# Altium schematic symbol library Schlib.SchLib: 73 symbols
Pins are listed as number, name and electrical type; pins without a type are passive.

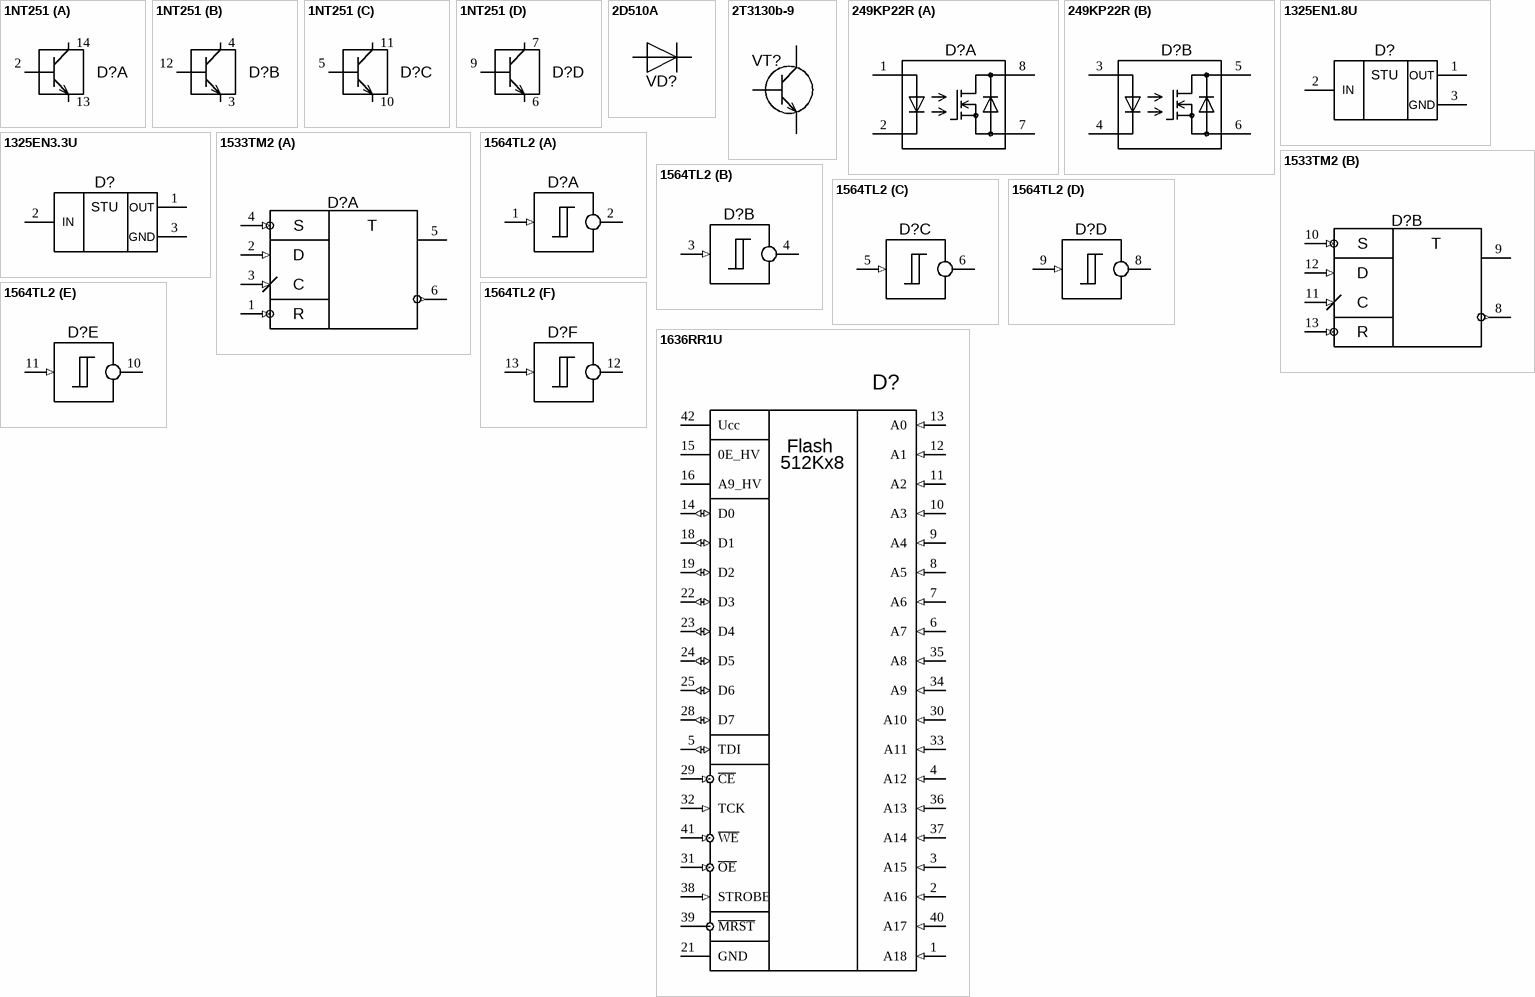
[diagram p0: symbols 1NT251 to 1636RR1U]

## 1NT251
designator D?  (value not drawn)
4x N-P-N; TypeElement: Матрица транзисторная; Name: 1НТ251А; Screening: ОС; Script: [TypeElement] [Name] [Screening]; Specific: И93.456.000ТУ/Д6; ScrSpecific: аА0.339.190ТУ; Value: *
footprint 2T3129 (М=0,01г, пластмассовый корпус, без прокладки,ручная пайка)
pins on every part: 1 hidden, 8 hidden
part A pins: 2, 13, 14
part B pins: 3, 4, 12
part C pins: 5, 10, 11
part D pins: 6, 7, 9

## 2D510A
designator VD?  (value not drawn)
Pulse Diode; Specific: АЕЯР.432120.602 ТУ; TypeElement: Диод; Name: 2Д510А/ББ; Script: [TypeElement] [Name]; Screening: ОС
footprint 2D510A_P
pins: Minus, Plus

## 2T3130b-9
designator VT?  (value not drawn)
n-p-n; TypeElement: Транзистор; Name: 2Т3130; Modification: Б9; Screening: ОСМ; Script: [TypeElement] [Name][Modification] [Screening]; Specific: аА0.339.569ТУ; Value: *
footprint 2T3129 (М=0,01г, пластмассовый корпус, без прокладки,ручная пайка)
pins: 1, 2, 3

## 249KP22R
designator D?  (value not drawn)
2x SS-relay; Specific: АЕНВ.431160.047ТУ; Script: [TypeElement] [Name]; TypeElement: Микросхема; Name: 249КП22Р
pins on every part: 1 hidden, 4 hidden
part A pins: 1 IN1+, 2 IN1-, 7 OUT1-, 8 OUT1+
part B pins: 3 IN2+, 4 IN2-, 5 OUT2+, 6 OUT2-

## 1325EN1.8U
designator D?
1.8V Linear Regulator; TypeElement: Микросхема; Specific: АЕЯР.431200.762ТУ; Name: 1325ЕН1.8У; Script: [TypeElement] [Name]
footprint KT_93_1NN
pins: 1 OUT, 2 IN, 3 GND
text: STU

## 1325EN3.3U
designator D?
3.3V Linear Regulator; TypeElement: Микросхема; Specific: АЕЯР.431200.762ТУ; Name: 1325ЕН3.3У; Script: [TypeElement] [Name]
footprint KT_93_1NN
pins: 1 OUT, 2 IN, 3 GND
text: STU

## 1533TM2
designator D?
2x D-FlipFlop with preset; TypeElement: Микросхема; Name: 1533ТМ2; Script: [TypeElement] [Name]; Specific: бК0.347.364-02ТУ; Value: *
part A pins: 1 ~{R1} (in), 2 D1 (in), 3 C1 (in), 4 ~{S1} (in), 5 OUT1, 6 ~{OUT1} (out), 7 GND (out) hidden to GND, 14 +5V (out) hidden to +5V
part B pins: 8 ~{OUT2} (out), 9 OUT2, 10 ~{S2} (in), 11 C2 (in), 12 D2 (in), 13 ~{R2} (in)
part A text: S; T; D; C; R
part B text: S; T; D; C; R

## 1564TL2
designator D?
Инв.+гист. х6; TypeElement: Микросхема; Specific: бК0.347.479-07ТУ; Name: 1564ТЛ2; Script: [TypeElement] [Name]
footprint KT_93_1NN
pins on every part: 7 GND (power) hidden to GND, 14 +U (power) hidden to +3V3
part A pins: 1 IN (in), 2 OUT (out)
part B pins: 3 IN (in), 4 OUT (out)
part C pins: 5 IN (in), 6 OUT (out)
part D pins: 8 OUT (out), 9 IN (in)
part E pins: 10 OUT (out), 11 IN (in)
part F pins: 12 OUT (out), 13 IN (in)

## 1636RR1U
designator D?  (value not drawn)
TypeElement: Микросхема; Name: 1636РР1АУ; Script: [TypeElement] [Name]; Specific: АЕЯР.431210.647ТУ; Value: *
pins: 1 A18 (in), 2 A16 (in), 3 A15 (in), 4 A12 (in), 5 TDI (io), 6 A7 (in), 7 A6 (in), 8 A5 (in), 9 A4 (in), 10 A3 (in), 11 A2 (in), 12 A1 (in), 13 A0 (in), 14 D0 (io), 15 0E_HV, 16 A9_HV, 17 hidden, 18 D1 (io), 19 D2 (io), 20 hidden, 21 GND, 22 D3 (io), 23 D4 (io), 24 D5 (io), 25 D6 (io), 26 hidden, 27 hidden, 28 D7 (io), 29 ~{CE} (in), 30 A10 (in), 31 ~{OE} (in), 32 TCK (in), 33 A11 (in), 34 A9 (in), 35 A8 (in), 36 A13 (in), 37 A14 (in), 38 STROBE (in), 39 ~{MRST}, 40 A17 (in), 41 ~{WE} (in), 42 Ucc
text: Flash; 512Kx8

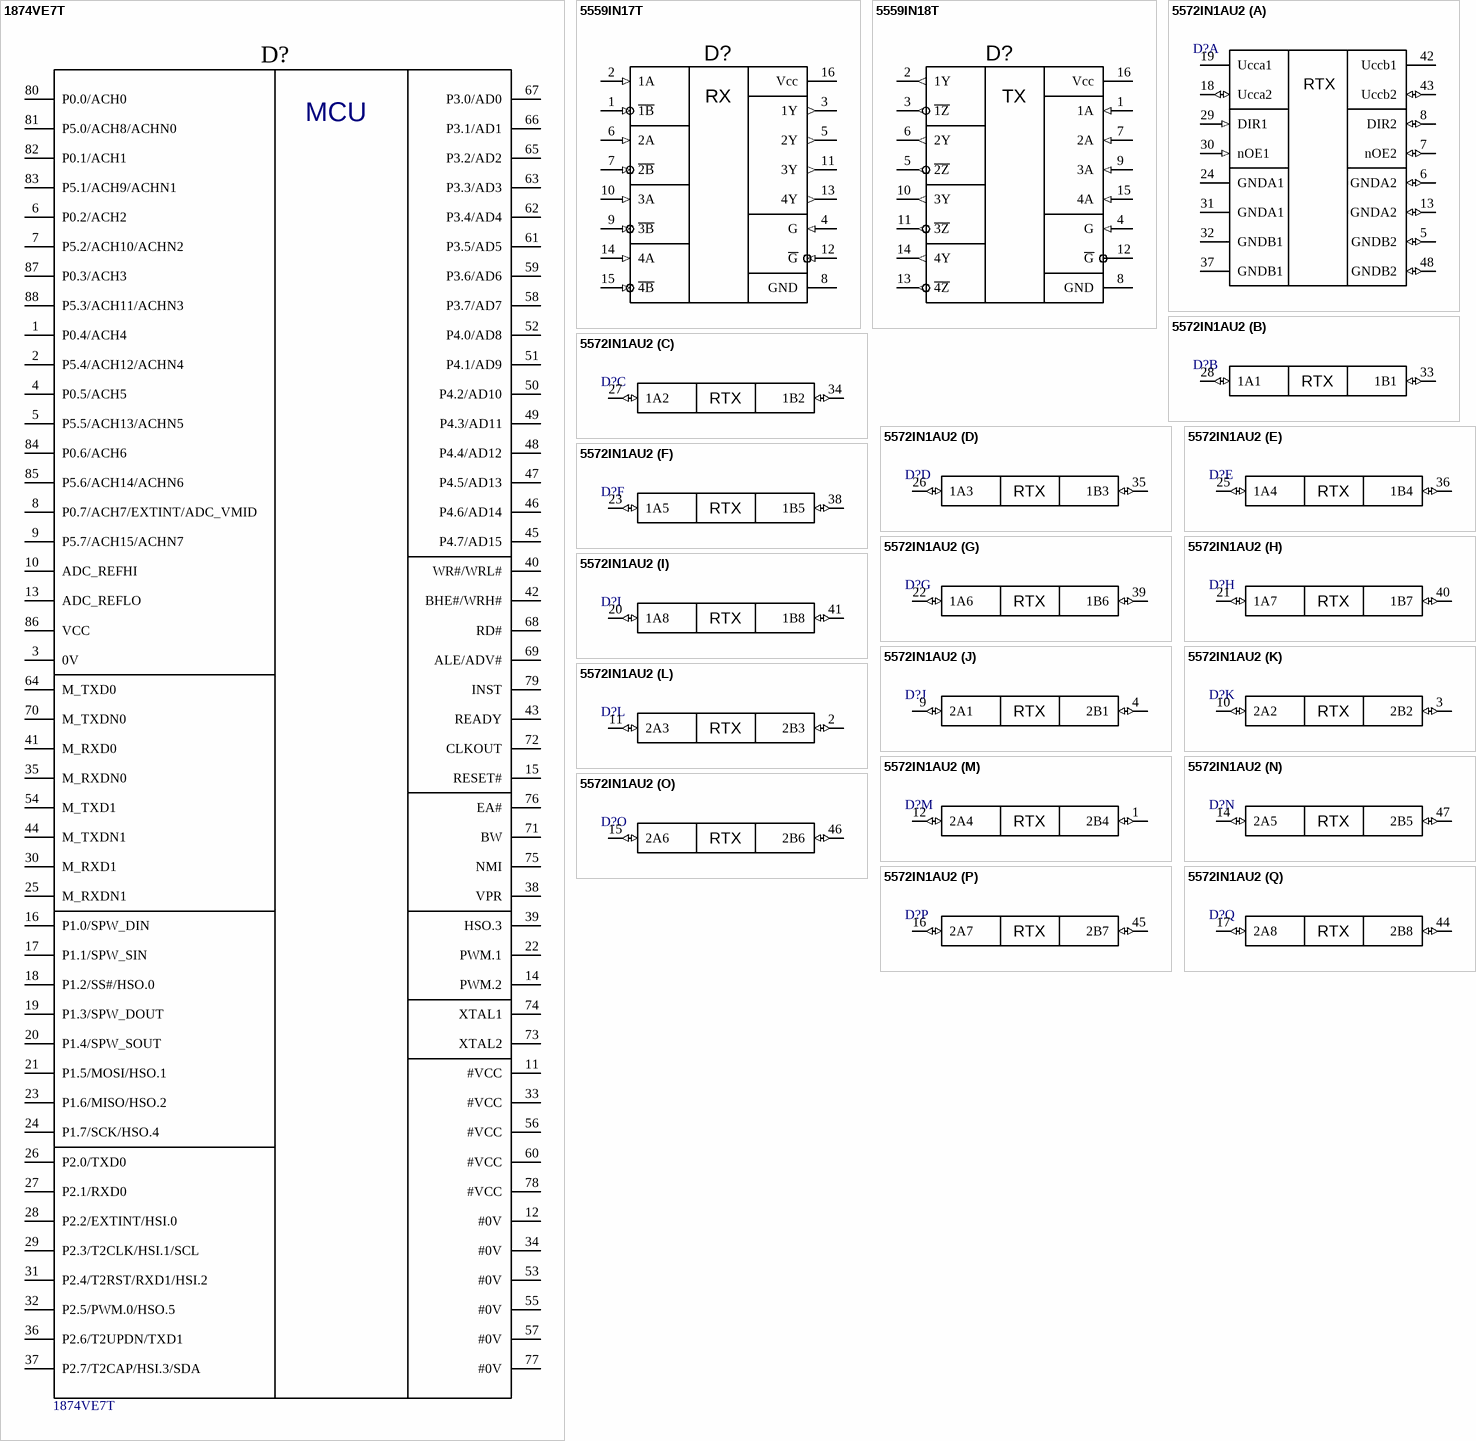
[diagram p1: symbols 1874VE7T to 5572IN1AU2]

## 1874VE7T
designator D?
Script: [TypeElement] [Name]; TypeElement: Микросхема; Name: 1874ВЕ7БТ; Specific: АЕЯР.431280.903ТУ
pins: 1 P0.4/ACH4, 2 P5.4/ACH12/ACHN4, 3 0V, 4 P0.5/ACH5, 5 P5.5/ACH13/ACHN5, 6 P0.2/ACH2, 7 P5.2/ACH10/ACHN2, 8 P0.7/ACH7/EXTINT/ADC_VMID, 9 P5.7/ACH15/ACHN7, 10 ADC_REFHI, 11 #VCC, 12 #0V, 13 ADC_REFLO, 14 PWM.2, 15 RESET#, 16 P1.0/SPW_DIN, 17 P1.1/SPW_SIN, 18 P1.2/SS#/HSO.0, 19 P1.3/SPW_DOUT, 20 P1.4/SPW_SOUT, 21 P1.5/MOSI/HSO.1, 22 PWM.1, 23 P1.6/MISO/HSO.2, 24 P1.7/SCK/HSO.4, 25 M_RXDN1, 26 P2.0/TXD0, 27 P2.1/RXD0, 28 P2.2/EXTINT/HSI.0, 29 P2.3/T2CLK/HSI.1/SCL, 30 M_RXD1, 31 P2.4/T2RST/RXD1/HSI.2, 32 P2.5/PWM.0/HSO.5, 33 #VCC, 34 #0V, 35 M_RXDN0, 36 P2.6/T2UPDN/TXD1, 37 P2.7/T2CAP/HSI.3/SDA, 38 VPR, 39 HSO.3, 40 WR#/WRL#, 41 M_RXD0, 42 BHE#/WRH#, 43 READY, 44 M_TXDN1, 45 P4.7/AD15, 46 P4.6/AD14, 47 P4.5/AD13, 48 P4.4/AD12, 49 P4.3/AD11, 50 P4.2/AD10, 51 P4.1/AD9, 52 P4.0/AD8, 53 #0V, 54 M_TXD1, 55 #0V, 56 #VCC, 57 #0V, 58 P3.7/AD7, 59 P3.6/AD6, 60 #VCC, 61 P3.5/AD5, 62 P3.4/AD4, 63 P3.3/AD3, 64 M_TXD0, 65 P3.2/AD2, 66 P3.1/AD1, 67 P3.0/AD0, 68 RD#, 69 ALE/ADV#, 70 M_TXDN0, 71 BW, 72 CLKOUT, 73 XTAL2, 74 XTAL1, 75 NMI, 76 EA#, 77 #0V, 78 #VCC, 79 INST, 80 P0.0/ACH0, 81 P5.0/ACH8/ACHN0, 82 P0.1/ACH1, 83 P5.1/ACH9/ACHN1, 84 P0.6/ACH6, 85 P5.6/ACH14/ACHN6, 86 VCC, 87 P0.3/ACH3, 88 P5.3/ACH11/ACHN3
text: MCU

## 5559IN17T
designator D?  (value not drawn)
4xRS422 RX; TypeElement: Микросхема; Name: 5559ИН17Т; Script: [TypeElement] [Name]; Specific: АЕЯР.431230.699ТУ; Value: *
footprint 402_16_33
pins: 1 ~{1В} (in), 2 1A (in), 3 1Y (out), 4 G (in), 5 2Y (out), 6 2А (in), 7 ~{2В} (in), 8 GND, 9 ~{3В} (in), 10 3А (in), 11 3Y (out), 12 ~{G} (in), 13 4Y (out), 14 4А (in), 15 ~{4В} (in), 16 Vcc
text: RX

## 5559IN18T
designator D?
4xRS422 TX; TypeElement: Микросхема; Name: 5559ИН18Т; Script: [TypeElement] [Name]; Specific: АЕЯР.431230.700ТУ; Value: *
footprint 402_16_33
pins: 1 1A (in), 2 1Y (out), 3 ~{1Z} (out), 4 G (in), 5 ~{2Z} (out), 6 2Y (out), 7 2А (in), 8 GND, 9 3А (in), 10 3Y (out), 11 ~{3Z} (out), 12 ~{G}, 13 ~{4Z} (out), 14 4Y (out), 15 4А (in), 16 Vcc
text: TX

## 5572IN1AU2
designator D?  (value not drawn)
16bit BiDirrect BUS-driver; Name: 5572ИН1АУ; Script: [TypeElement][Name]; Specific: АЕЯР.431230.913ТУ; TypeElement: Микросхема; Value: *
footprint H16.48_1B (5572ИН1(А))
part A pins: 5 GNDB2 (io), 6 GNDA2 (io), 7 nOE2 (io), 8 DIR2 (io), 13 GNDA2 (io), 18 Ucca2 (io), 19 Ucca1, 24 GNDA1, 29 DIR1 (in), 30 nOE1 (in), 31 GNDA1, 32 GNDB1, 37 GNDB1, 42 Uccb1, 43 Uccb2 (io), 48 GNDB2 (io)
part B pins: 28 1A1 (io), 33 1B1 (io)
part C pins: 27 1A2 (io), 34 1B2 (io)
part D pins: 26 1A3 (io), 35 1B3 (io)
part E pins: 25 1A4 (io), 36 1B4 (io)
part F pins: 23 1A5 (io), 38 1B5 (io)
part G pins: 22 1A6 (io), 39 1B6 (io)
part H pins: 21 1A7 (io), 40 1B7 (io)
part I pins: 20 1A8 (io), 41 1B8 (io)
part J pins: 4 2B1 (io), 9 2A1 (io)
part K pins: 3 2B2 (io), 10 2A2 (io)
part L pins: 2 2B3 (io), 11 2A3 (io)
part M pins: 1 2B4 (io), 12 2A4 (io)
part N pins: 14 2A5 (io), 47 2B5 (io)
part O pins: 15 2A6 (io), 46 2B6 (io)
part P pins: 16 2A7 (io), 45 2B7 (io)
part Q pins: 17 2A8 (io), 44 2B8 (io)
part A text: RTX
part B text: RTX
part C text: RTX
part D text: RTX
part E text: RTX
part F text: RTX
part G text: RTX
part H text: RTX
part I text: RTX
part J text: RTX
part K text: RTX
part L text: RTX
part M text: RTX
part N text: RTX
part O text: RTX
part P text: RTX
part Q text: RTX

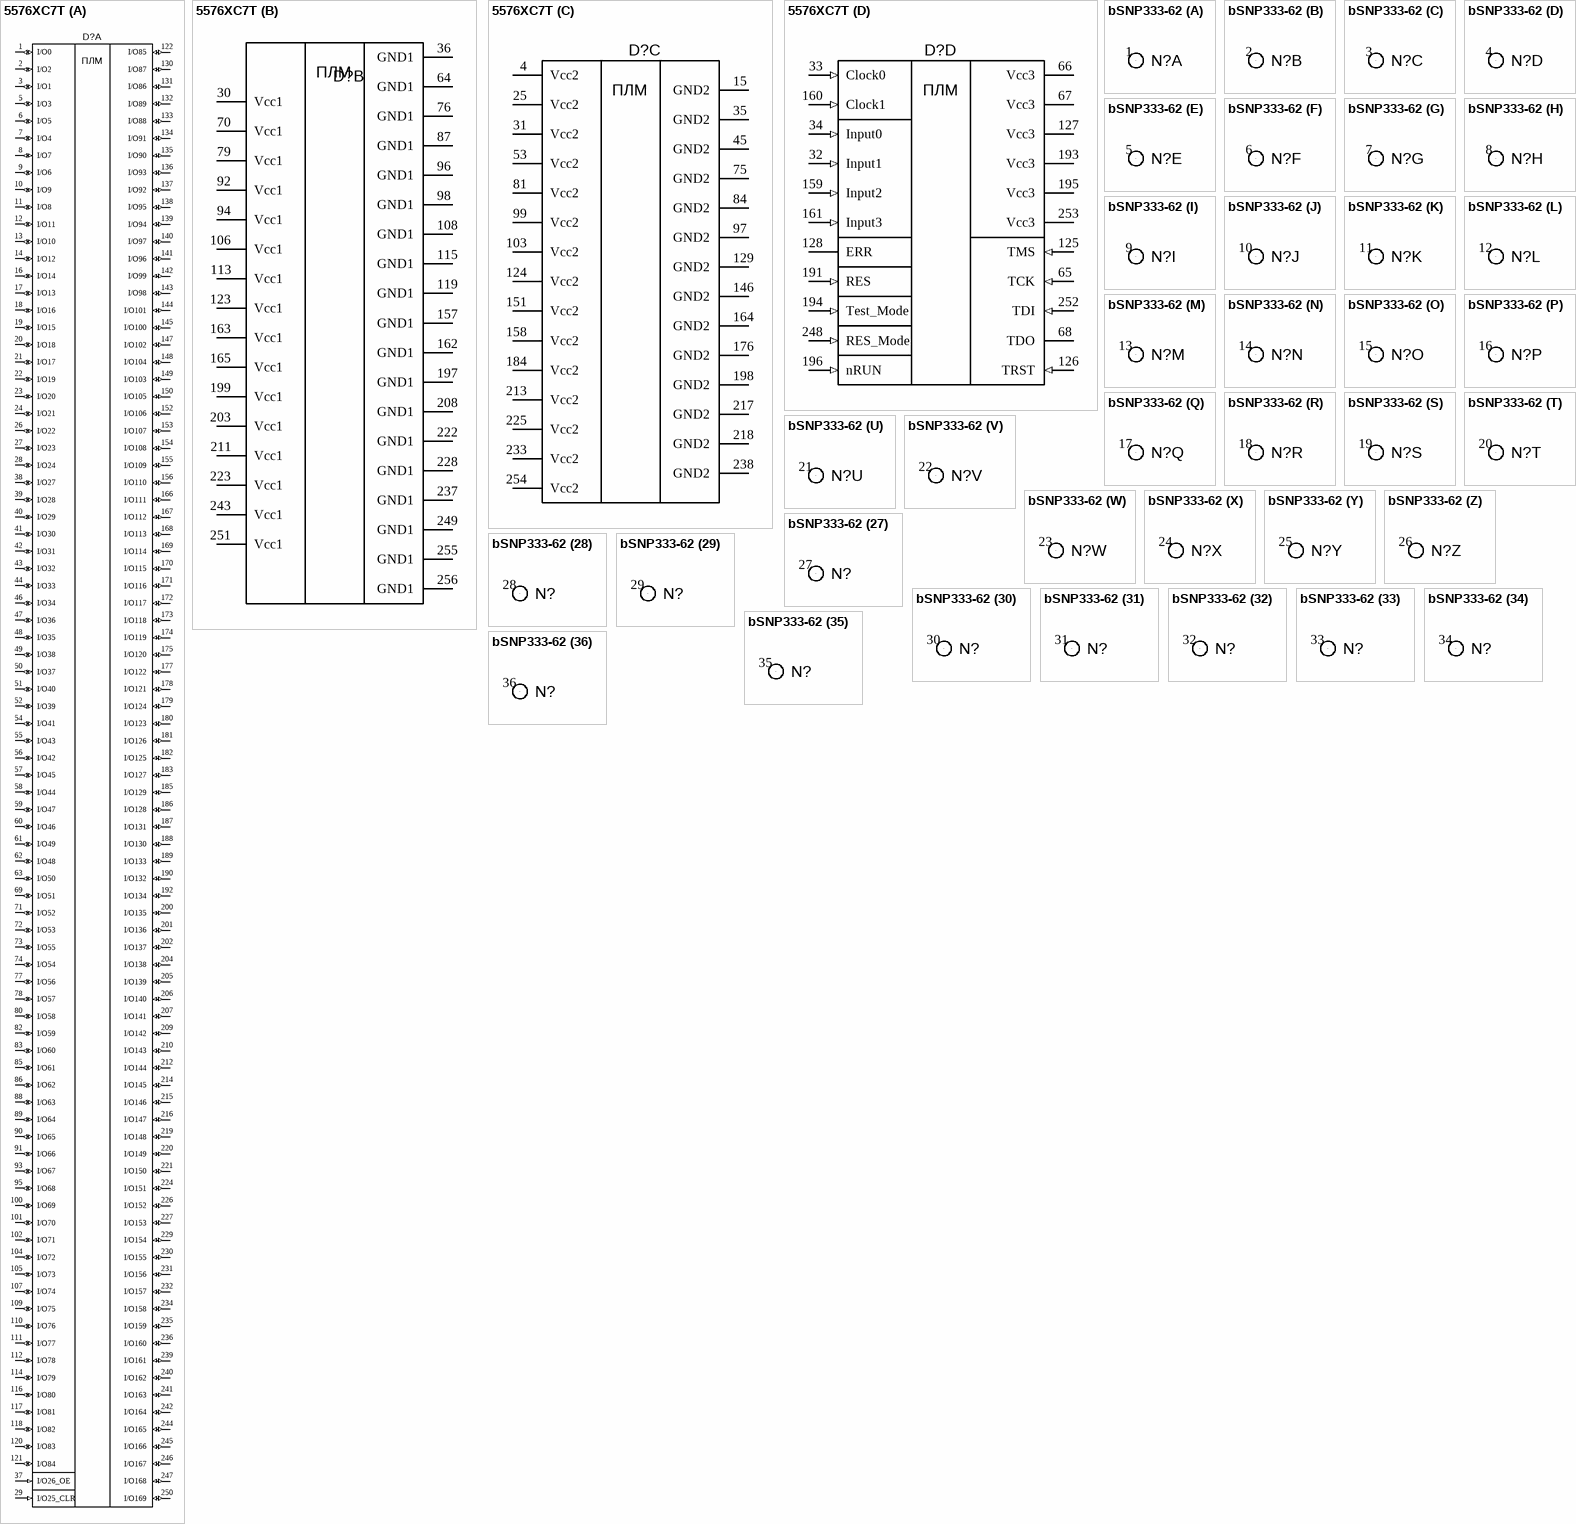
[diagram p2: symbols 5576XC7T to bSNP333-62]

## 5576XC7T
designator D?
ПЛМ; TypeElement: Микросхема; Maker: Actel; Name: RTAX250S; HiSpeed: 1; Modification: CQ208; Screening: E; Script: [TypeElement] [Name]-[Speed][Modification][Screening]; Value: *
footprint 5576XC7T
part A pins: 1 I/O0 (io), 2 I/O2 (io), 3 I/O1 (io), 5 I/O3 (io), 6 I/O5 (io), 7 I/O4 (io), 8 I/O7 (io), 9 I/O6 (io), 10 I/O9 (io), 11 I/O8 (io), 12 I/O11 (io), 13 I/O10 (io), 14 I/O12 (io), 16 I/O14 (io), 17 I/O13 (io), 18 I/O16 (io), 19 I/O15 (io), 20 I/O18 (io), 21 I/O17 (io), 22 I/O19 (io), 23 I/O20 (io), 24 I/O21 (io), 26 I/O22 (io), 27 I/O23 (io), 28 I/O24 (io), 29 I/O25_CLR (in), 37 I/O26_OE (in), 38 I/O27 (io), 39 I/O28 (io), 40 I/O29 (io), 41 I/O30 (io), 42 I/O31 (io), 43 I/O32 (io), 44 I/O33 (io), 46 I/O34 (io), 47 I/O36 (io), 48 I/O35 (io), 49 I/O38 (io), 50 I/O37 (io), 51 I/O40 (io), 52 I/O39 (io), 54 I/O41 (io), 55 I/O43 (io), 56 I/O42 (io), 57 I/O45 (io), 58 I/O44 (io), 59 I/O47 (io), 60 I/O46 (io), 61 I/O49 (io), 62 I/O48 (io), 63 I/O50 (io), 69 I/O51 (io), 71 I/O52 (io), 72 I/O53 (io), 73 I/O55 (io), 74 I/O54 (io), 77 I/O56 (io), 78 I/O57 (io), 80 I/O58 (io), 82 I/O59 (io), 83 I/O60 (io), 85 I/O61 (io), 86 I/O62 (io), 88 I/O63 (io), 89 I/O64 (io), 90 I/O65 (io), 91 I/O66 (io), 93 I/O67 (io), 95 I/O68 (io), 100 I/O69 (io), 101 I/O70 (io), 102 I/O71 (io), 104 I/O72 (io), 105 I/O73 (io), 107 I/O74 (io), 109 I/O75 (io), 110 I/O76 (io), 111 I/O77 (io), 112 I/O78 (io), 114 I/O79 (io), 116 I/O80 (io), 117 I/O81 (io), 118 I/O82 (io), 120 I/O83 (io), 121 I/O84 (io), 122 I/O85 (io), 130 I/O87 (io), 131 I/O86 (io), 132 I/O89 (io), 133 I/O88 (io), 134 I/O91 (io), 135 I/O90 (io), 136 I/O93 (io), 137 I/O92 (io), 138 I/O95 (io), 139 I/O94 (io), 140 I/O97 (io), 141 I/O96 (io), 142 I/O99 (io), 143 I/O98 (io), 144 I/O101 (io), 145 I/O100 (io), 147 I/O102 (io), 148 I/O104 (io), 149 I/O103 (io), 150 I/O105 (io), 152 I/O106 (io), 153 I/O107 (io), 154 I/O108 (io), 155 I/O109 (io), 156 I/O110 (io), 166 I/O111 (io), 167 I/O112 (io), 168 I/O113 (io), 169 I/O114 (io), 170 I/O115 (io), 171 I/O116 (io), 172 I/O117 (io), 173 I/O118 (io), 174 I/O119 (io), 175 I/O120 (io), 177 I/O122 (io), 178 I/O121 (io), 179 I/O124 (io), 180 I/O123 (io), 181 I/O126 (io), 182 I/O125 (io), 183 I/O127 (io), 185 I/O129 (io), 186 I/O128 (io), 187 I/O131 (io), 188 I/O130 (io), 189 I/O133 (io), 190 I/O132 (io), 192 I/O134 (io), 200 I/O135 (io), 201 I/O136 (io), 202 I/O137 (io), 204 I/O138 (io), 205 I/O139 (io), 206 I/O140 (io), 207 I/O141 (io), 209 I/O142 (io), 210 I/O143 (io), 212 I/O144 (io), 214 I/O145 (io), 215 I/O146 (io), 216 I/O147 (io), 219 I/O148 (io), 220 I/O149 (io), 221 I/O150 (io), 224 I/O151 (io), 226 I/O152 (io), 227 I/O153 (io), 229 I/O154 (io), 230 I/O155 (io), 231 I/O156 (io), 232 I/O157 (io), 234 I/O158 (io), 235 I/O159 (io), 236 I/O160 (io), 239 I/O161 (io), 240 I/O162 (io), 241 I/O163 (io), 242 I/O164 (io), 244 I/O165 (io), 245 I/O166 (io), 246 I/O167 (io), 247 I/O168 (io), 250 I/O169 (io)
part B pins: 30 Vcc1, 36 GND1, 64 GND1, 70 Vcc1, 76 GND1, 79 Vcc1, 87 GND1, 92 Vcc1, 94 Vcc1, 96 GND1, 98 GND1, 106 Vcc1, 108 GND1, 113 Vcc1, 115 GND1, 119 GND1, 123 Vcc1, 157 GND1, 162 GND1, 163 Vcc1, 165 Vcc1, 197 GND1, 199 Vcc1, 203 Vcc1, 208 GND1, 211 Vcc1, 222 GND1, 223 Vcc1, 228 GND1, 237 GND1, 243 Vcc1, 249 GND1, 251 Vcc1, 255 GND1, 256 GND1
part C pins: 4 Vcc2, 15 GND2, 25 Vcc2, 31 Vcc2, 35 GND2, 45 GND2, 53 Vcc2, 75 GND2, 81 Vcc2, 84 GND2, 97 GND2, 99 Vcc2, 103 Vcc2, 124 Vcc2, 129 GND2, 146 GND2, 151 Vcc2, 158 Vcc2, 164 GND2, 176 GND2, 184 Vcc2, 198 GND2, 213 Vcc2, 217 GND2, 218 GND2, 225 Vcc2, 233 Vcc2, 238 GND2, 254 Vcc2
part D pins: 32 Input1 (in), 33 Clock0 (in), 34 Input0 (in), 65 TCK (in), 66 Vcc3, 67 Vcc3, 68 TDO (hiz), 125 TMS (in), 126 TRST (in), 127 Vcc3, 128 ERR (oc), 159 Input2 (in), 160 Clock1 (in), 161 Input3 (in), 191 RES (in), 193 Vcc3, 194 Test_Mode (in), 195 Vcc3, 196 nRUN (in), 248 RES_Mode (in), 252 TDI (in), 253 Vcc3

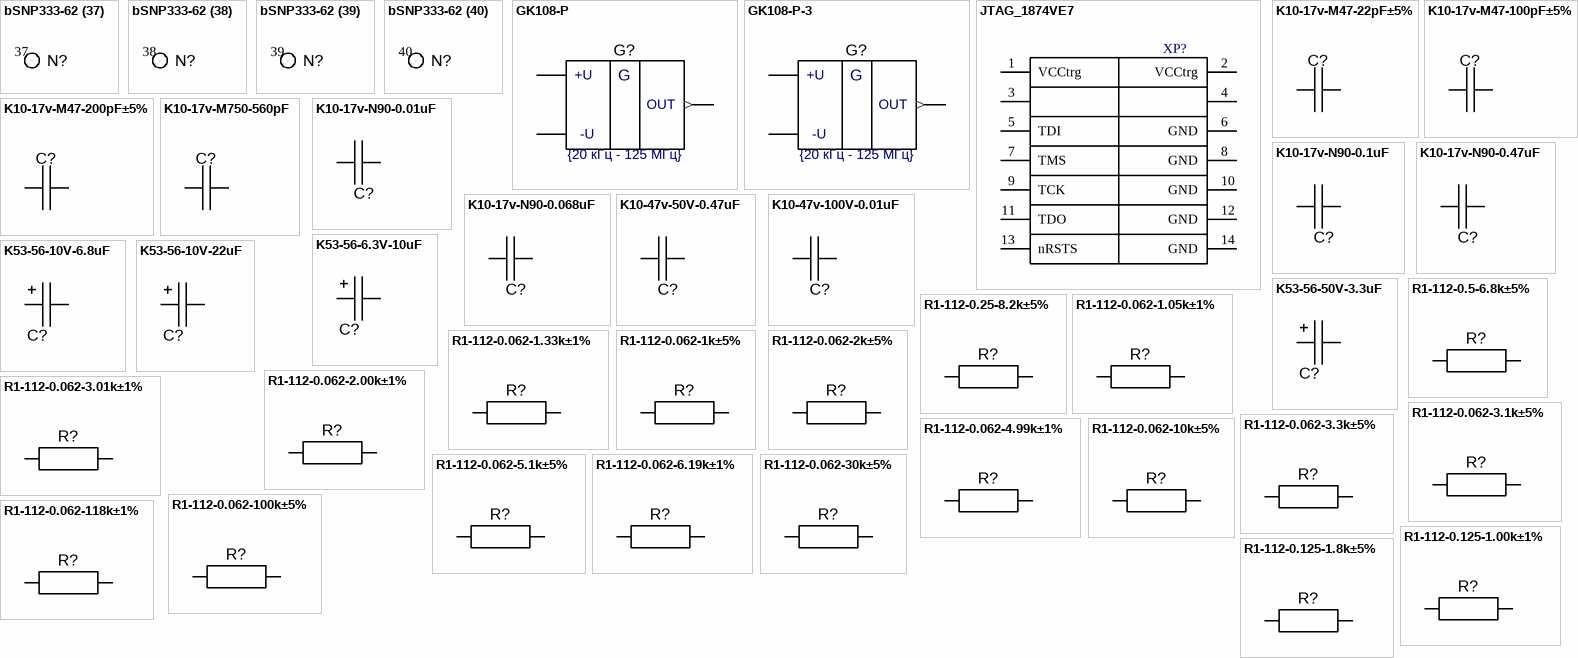
[diagram p3: symbols bSNP333-62 to R1-112-0.125-1.8k±5%]

## bSNP333-62
designator N?
board analog SNP333
part A pins: 1
part B pins: 2
part C pins: 3
part D pins: 4
part E pins: 5
part F pins: 6
part G pins: 7
part H pins: 8
part I pins: 9
part J pins: 10
part K pins: 11
part L pins: 12
part M pins: 13
part N pins: 14
part O pins: 15
part P pins: 16
part Q pins: 17
part R pins: 18
part S pins: 19
part T pins: 20
part U pins: 21
part V pins: 22
part W pins: 23
part X pins: 24
part Y pins: 25
part Z pins: 26
part 27 pins: 27
part 28 pins: 28
part 29 pins: 29
part 30 pins: 30
part 31 pins: 31
part 32 pins: 32
part 33 pins: 33
part 34 pins: 34
part 35 pins: 35
part 36 pins: 36
part 37 pins: 37
part 38 pins: 38
part 39 pins: 39
part 40 pins: 40
part 41 pins: 41
part 42 pins: 42
part 43 pins: 43
part 44 pins: 44
part 45 pins: 45
part 46 pins: 46
part 47 pins: 47
part 48 pins: 48
part 49 pins: 49
part 50 pins: 50
part 51 pins: 51
part 52 pins: 52
part 53 pins: 53
part 54 pins: 54
part 55 pins: 55
part 56 pins: 56
part 57 pins: 57
part 58 pins: 58
part 59 pins: 59
part 60 pins: 60
part 61 pins: 61
part 62 pins: 62

## GK108-P
designator G?  Frequency: {20 кГц - 125 МГц}
Oscillator 5V; TypeElement: Генератор кварцевый; Name: ГК108-П-15ГР; Script: [TypeElement] [Name]-[Frequency]; Specific: АФТП.433520.007ТУ; Value: 16M
pins: 1 hidden, 2 IN-, 3 OUT (out), 4 IN+
text: +U; G; -U

## GK108-P-3
designator G?  Frequency: {20 кГц - 125 МГц}
Oscillator 3V3; TypeElement: Генератор кварцевый; Name: ГК108-П-15ГР-3; Script: [TypeElement] [Name]-[Frequency]; Specific: АФТП.433520.007ТУ; Value: 16M
pins: 1 hidden, 2 IN-, 3 OUT (out), 4 IN+
text: +U; G; -U

## JTAG_1874VE7
designator XP?  (value not drawn)
Соединитель СНП346-14ВП21-1-В; Script: [TypeElement] [Name]; Specific: РЮМК.430420.011ТУ; TypeElement: Соединитель; Name: СНП346-14ВП21-1-В
pins: 1 VCCtrg, 2 VCCtrg, 3, 4, 5 TDI, 6 GND, 7 TMS, 8 GND, 9 TCK, 10 GND, 11 TDO, 12 GND, 13 nRSTS, 14 GND

## K10-17v-M47-22pF±5%
designator C?
ChipCapasitor; Value: 22пФ; Specific: ОЖ0.460.107ТУ; ScrSpecific: ОЖ0.460.183ТУ; TypeElement: Конденсатор; Screening: ОС; Name: К10-17в-М47; Script: [TypeElement] [Screening] [Name]-[Value]±5%-В
pins: 1, 2

## K10-17v-M47-100pF±5%
designator C?
ChipCapasitor; Value: 100пФ; Specific: ОЖ0.460.107ТУ; ScrSpecific: ОЖ0.460.183ТУ; TypeElement: Конденсатор; Screening: ОС; Name: К10-17в-М47; Script: [TypeElement] [Screening] [Name]-[Value]±5%-В
pins: 1, 2

## K10-17v-M47-200pF±5%
designator C?
ChipCapasitor; Value: 200пФ; Specific: ОЖ0.460.107ТУ; ScrSpecific: ОЖ0.460.183ТУ; TypeElement: Конденсатор; Screening: ОС; Name: К10-17в-М47; Script: [TypeElement] [Screening] [Name]-[Value]±5%-В
pins: 1, 2

## K10-17v-M750-560pF
designator C?
ChipCapasitor; Value: 560пФ; Specific: ОЖ0.460.107ТУ; ScrSpecific: ОЖ0.460.183ТУ; TypeElement: Конденсатор; Screening: ОС; Name: К10-17в-М47; Script: [TypeElement] [Screening] [Name]-[Value]±5%-В
pins: 1, 2

## K10-17v-N90-0.01uF
designator C?
ChipCapasitor; Value: 0,01мкФ; Specific: ОЖ0.460.107ТУ; ScrSpecific: ОЖ0.460.183ТУ; TypeElement: Конденсатор; Screening: ОС; Name: К10-17в-Н90; Script: [TypeElement] [Screening] [Name]-[Value]
pins: 1, 2

## K10-17v-N90-0.1uF
designator C?
ChipCapasitor; Value: 0,1мкФ; Specific: ОЖ0.460.107ТУ; ScrSpecific: ОЖ0.460.183ТУ; TypeElement: Конденсатор; Screening: ОС; Name: К10-17в-Н90; Script: [TypeElement] [Screening] [Name]-[Value]
pins: 1, 2

## K10-17v-N90-0.47uF
designator C?
ChipCapasitor; Value: 0,47мкФ; Specific: ОЖ0.460.107ТУ; ScrSpecific: ОЖ0.460.183ТУ; TypeElement: Конденсатор; Screening: ОС; Name: К10-17в-Н90; Script: [TypeElement] [Screening] [Name]-[Value]
pins: 1, 2

## K10-17v-N90-0.068uF
designator C?
ChipCapasitor; Value: 0,068мкФ; Specific: ОЖ0.460.107ТУ; ScrSpecific: ОЖ0.460.183ТУ; TypeElement: Конденсатор; Screening: ОС; Name: К10-17в-Н90; Script: [TypeElement] [Screening] [Name]-[Value]
pins: 1, 2

## K10-47v-50V-0.47uF
designator C?
ChipCapasitor; Value: 0,47мкФ; Specific: ОЖ0.460.174ТУ; ScrSpecific: ОЖ0.460.183ТУ; TypeElement: Конденсатор; Screening: ОС; Name: К10-47в-50В; Script: [TypeElement] [Screening] [Name]-[Value][Tolerance]-НЗ; Tolerance: ±20%
pins: 1, 2

## K10-47v-100V-0.01uF
designator C?
ChipCapasitor; Value: 0,01мкФ; Specific: ОЖ0.460.174ТУ; ScrSpecific: ОЖ0.460.183ТУ; TypeElement: Конденсатор; Screening: ОС; Name: К10-47в-100В; Script: [TypeElement] [Screening] [Name]-[Value][Tolerance]-НЗ; Tolerance: ±20%
pins: 1, 2

## K53-56-6.3V-10uF
designator C?
Polar Capasitor; TypeElement: Конденсатор; Name: К53-56-6,3В-10мкФ; Tolerance: ±20%; Script: [TypeElement] [Name][Tolerance]-В; Specific: АЖЯР.673546.001ТУ
pins: Minus, Plus

## K53-56-10V-6.8uF
designator C?
Polar Capasitor; TypeElement: Конденсатор; Name: К53-56-10В-6,8мкФ; Tolerance: ±20%; Script: [TypeElement] [Name][Tolerance]-В; Specific: АЖЯР.673546.001ТУ
pins: Minus, Plus

## K53-56-10V-22uF
designator C?
Polar Capasitor; TypeElement: Конденсатор; Name: К53-56-10В-22мкФ; Tolerance: ±20%; Script: [TypeElement] [Name][Tolerance]-В; Specific: АЖЯР.673546.001ТУ
pins: Minus, Plus

## K53-56-50V-3.3uF
designator C?
Polar Capasitor; TypeElement: Конденсатор; Name: К53-56-50В-3.3мкФ; Tolerance: ±20%; Script: [TypeElement] [Name][Tolerance]-В; Specific: АЖЯР.673546.001ТУ
pins: Minus, Plus

## R1-112-0.5-6.8k±5%
designator R?
ChipResistor-0805; Value: 6.8 k; Specific: ДАРГ.434110.004ТУ; TypeElement: Резистор; Name: Р1-112-0,5; Script: [TypeElement] [Name]-[Value]±5%-К-А
pins: 1, 2

## R1-112-0.25-8.2k±5%
designator R?
ChipResistor-0805; Value: 8.2кОм; Specific: ДАРГ.434110.004ТУ; TypeElement: Резистор; Name: Р1-112-0,25; Script: [TypeElement] [Name]-[Value]±5%-К-А
pins: 1, 2

## R1-112-0.062-1.05k±1%
designator R?
ChipResistor-0603; Value: 1.05кОм; Specific: ДАРГ.434110.004ТУ; TypeElement: Резистор; Name: Р1-112-0,062; Script: [TypeElement] [Name]-[Value]±1%-К-А
pins: 1, 2

## R1-112-0.062-1.33k±1%
designator R?
ChipResistor-0603; Value: 1.33кОм; Specific: ДАРГ.434110.004ТУ; TypeElement: Резистор; Name: Р1-112-0,062; Script: [TypeElement] [Name]-[Value]±1%-К-А
pins: 1, 2

## R1-112-0.062-1k±5%
designator R?
ChipResistor-0603; Value: 1кОм; Specific: ДАРГ.434110.004ТУ; TypeElement: Резистор; Name: Р1-112-0,062; Script: [TypeElement] [Name]-[Value]±1%-К-А
pins: 1, 2

## R1-112-0.062-2.00k±1%
designator R?
ChipResistor-0603; Value: 2.00кОм; Specific: ДАРГ.434110.004ТУ; TypeElement: Резистор; Name: Р1-112-0,062; Script: [TypeElement] [Name]-[Value]±1%-К-А
pins: 1, 2

## R1-112-0.062-2k±5%
designator R?
ChipResistor-0603; Value: 2кОм; Specific: ДАРГ.434110.004ТУ; TypeElement: Резистор; Name: Р1-112-0,062; Script: [TypeElement] [Name]-[Value]±5%-К-А
pins: 1, 2

## R1-112-0.062-3.01k±1%
designator R?
ChipResistor-0603; Value: 3.01кОм; Specific: ДАРГ.434110.004ТУ; TypeElement: Резистор; Name: Р1-112-0,062; Script: [TypeElement] [Name]-[Value]±1%-К-А
pins: 1, 2

## R1-112-0.062-3.1k±5%
designator R?
ChipResistor-0603; Value: 3.1кОм; Specific: ДАРГ.434110.004ТУ; TypeElement: Резистор; Name: Р1-112-0,062; Script: [TypeElement] [Name]-[Value]±5%-К-А
pins: 1, 2

## R1-112-0.062-3.3k±5%
designator R?
ChipResistor-0603; Value: 3.3кОм; Specific: ДАРГ.434110.004ТУ; TypeElement: Резистор; Name: Р1-112-0,062; Script: [TypeElement] [Name]-[Value]±5%-К-А
pins: 1, 2

## R1-112-0.062-4.99k±1%
designator R?
ChipResistor-0603; Value: 4.99кОм; Specific: ДАРГ.434110.004ТУ; TypeElement: Резистор; Name: Р1-112-0,062; Script: [TypeElement] [Name]-[Value]±1%-К-А
pins: 1, 2

## R1-112-0.062-5.1k±5%
designator R?
ChipResistor-0603; Value: 5.1кОм; Specific: ДАРГ.434110.004ТУ; TypeElement: Резистор; Name: Р1-112-0,062; Script: [TypeElement] [Name]-[Value]±1%-К-А
pins: 1, 2

## R1-112-0.062-6.19k±1%
designator R?
ChipResistor-0603; Value: 6.19кОм; Specific: ДАРГ.434110.004ТУ; TypeElement: Резистор; Name: Р1-112-0,062; Script: [TypeElement] [Name]-[Value]±1%-К-А
pins: 1, 2

## R1-112-0.062-10k±5%
designator R?
ChipResistor-0603; Value: 10кОм; Specific: ДАРГ.434110.004ТУ; TypeElement: Резистор; Name: Р1-112-0,062; Script: [TypeElement] [Name]-[Value]±1%-К-А
pins: 1, 2

## R1-112-0.062-30k±5%
designator R?
ChipResistor-0603; Value: 30кОм; Specific: ДАРГ.434110.004ТУ; TypeElement: Резистор; Name: Р1-112-0,062; Script: [TypeElement] [Name]-[Value]±1%-К-А
pins: 1, 2

## R1-112-0.062-100k±5%
designator R?
ChipResistor-0603; Value: 100кОм; Specific: ДАРГ.434110.004ТУ; TypeElement: Резистор; Name: Р1-112-0,062; Script: [TypeElement] [Name]-[Value]±1%-К-А
pins: 1, 2

## R1-112-0.062-118k±1%
designator R?
ChipResistor-0603; Value: 118 кОм; Specific: ДАРГ.434110.004ТУ; TypeElement: Резистор; Name: Р1-112-0,062; Script: [TypeElement] [Name]-[Value]±1%-М-А
pins: 1, 2

## R1-112-0.125-1.00k±1%
designator R?
ChipResistor-0805; Value: 1кОм; Specific: ДАРГ.434110.004ТУ; TypeElement: Резистор; Name: Р1-112-0,125; Script: [TypeElement] [Name]-[Value]±1%-К-А
pins: 1, 2

## R1-112-0.125-1.8k±5%
designator R?
ChipResistor-0805; Value: 1.8кОм; Specific: ДАРГ.434110.004ТУ; TypeElement: Резистор; Name: Р1-112-0,125; Script: [TypeElement] [Name]-[Value]±5%-К-А
pins: 1, 2

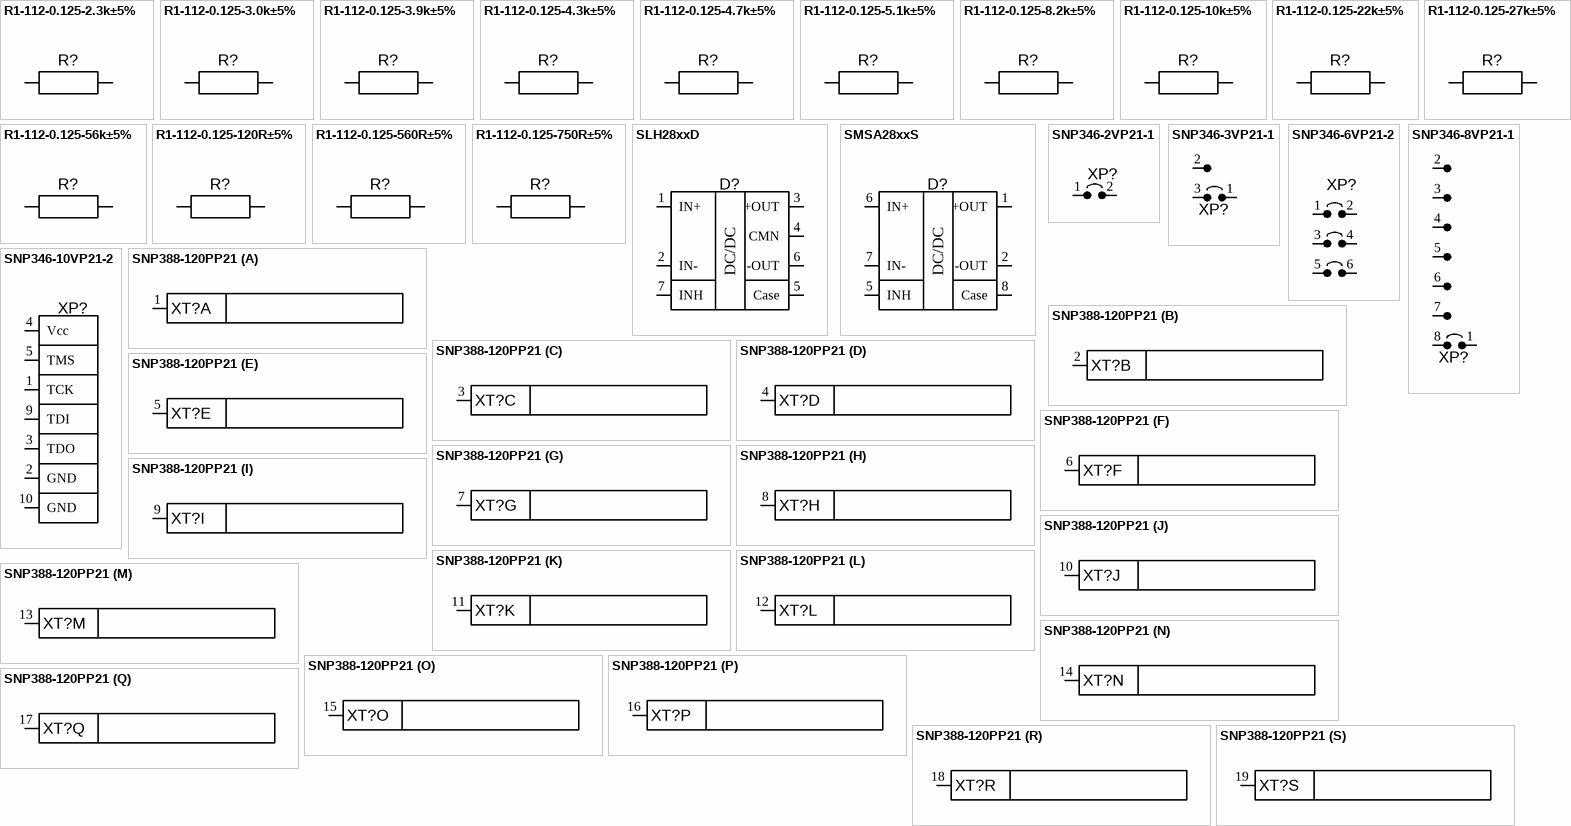
[diagram p4: symbols R1-112-0.125-2.3k±5% to SNP388-120PP21]

## R1-112-0.125-2.3k±5%
designator R?
ChipResistor-0805; Value: 2.3кОм; Specific: ДАРГ.434110.004ТУ; TypeElement: Резистор; Name: Р1-112-0,125; Script: [TypeElement] [Name]-[Value]±5%-К-А
pins: 1, 2

## R1-112-0.125-3.0k±5%
designator R?
ChipResistor-0805; Value: 3.0кОм; Specific: ДАРГ.434110.004ТУ; TypeElement: Резистор; Name: Р1-112-0,125; Script: [TypeElement] [Name]-[Value]±5%-К-А
pins: 1, 2

## R1-112-0.125-3.9k±5%
designator R?
ChipResistor-0805; Value: 3.9кОм; Specific: ДАРГ.434110.004ТУ; TypeElement: Резистор; Name: Р1-112-0,125; Script: [TypeElement] [Name]-[Value]±5%-К-А
pins: 1, 2

## R1-112-0.125-4.3k±5%
designator R?
ChipResistor-0805; Value: 4.3кОм; Specific: ДАРГ.434110.004ТУ; TypeElement: Резистор; Name: Р1-112-0,125; Script: [TypeElement] [Name]-[Value]±5%-К-А
pins: 1, 2

## R1-112-0.125-4.7k±5%
designator R?
ChipResistor-0805; Value: 4.7кОм; Specific: ДАРГ.434110.004ТУ; TypeElement: Резистор; Name: Р1-112-0,125; Script: [TypeElement] [Name]-[Value]±5%-К-А
pins: 1, 2

## R1-112-0.125-5.1k±5%
designator R?
ChipResistor-0805; Value: 5.1кОм; Specific: ДАРГ.434110.004ТУ; TypeElement: Резистор; Name: Р1-112-0,125; Script: [TypeElement] [Name]-[Value]±5%-К-А
pins: 1, 2

## R1-112-0.125-8.2k±5%
designator R?
ChipResistor-0805; Value: 8.2кОм; Specific: ДАРГ.434110.004ТУ; TypeElement: Резистор; Name: Р1-112-0,125; Script: [TypeElement] [Name]-[Value]±5%-К-А
pins: 1, 2

## R1-112-0.125-10k±5%
designator R?
ChipResistor-0805; Value: 10кОм; Specific: ДАРГ.434110.004ТУ; TypeElement: Резистор; Name: Р1-112-0,125; Script: [TypeElement] [Name]-[Value]±5%-К-А
pins: 1, 2

## R1-112-0.125-22k±5%
designator R?
ChipResistor-0805; Value: 22кОм; Specific: ДАРГ.434110.004ТУ; TypeElement: Резистор; Name: Р1-112-0,125; Script: [TypeElement] [Name]-[Value]±5%-К-А
pins: 1, 2

## R1-112-0.125-27k±5%
designator R?
ChipResistor-0805; Value: 27кОм; Specific: ДАРГ.434110.004ТУ; TypeElement: Резистор; Name: Р1-112-0,125; Script: [TypeElement] [Name]-[Value]±5%-К-А
pins: 1, 2

## R1-112-0.125-56k±5%
designator R?
ChipResistor-0805; Value: 56кОм; Specific: ДАРГ.434110.004ТУ; TypeElement: Резистор; Name: Р1-112-0,125; Script: [TypeElement] [Name]-[Value]±5%-К-А
pins: 1, 2

## R1-112-0.125-120R±5%
designator R?
ChipResistor-0805; Value: 120 Ом; Specific: ДАРГ.434110.004ТУ; TypeElement: Резистор; Name: Р1-112-0,125; Script: [TypeElement] [Name]-[Value]±5%-К-А
pins: 1, 2

## R1-112-0.125-560R±5%
designator R?
ChipResistor-0805; Value: 560 Ом; Specific: ДАРГ.434110.004ТУ; TypeElement: Резистор; Name: Р1-112-0,125; Script: [TypeElement] [Name]-[Value]±5%-К-А
pins: 1, 2

## R1-112-0.125-750R±5%
designator R?
ChipResistor-0805; Value: 750 Ом; Specific: ДАРГ.434110.004ТУ; TypeElement: Резистор; Name: Р1-112-0,125; Script: [TypeElement] [Name]-[Value]±5%-К-А
pins: 1, 2

## SLH28xxD
designator D?
DC/DC 1,5W dual; TypeElement: Модуль питания; Name: SLH28; Script: [TypeElement] [Name][Voltage][Screening]; Voltage: {05D}; ExistVoltage: 05D=±5В; 12D=±12В; 15D=±15В; Maker: Interpoint; Screening: /KR; Value: *
pins: 1 IN+, 2 IN-, 3 +OUT, 4 CMN, 5 Case, 6 -OUT, 7 INH
text: DC/DC

## SMSA28xxS
designator D?
DC/DC 5W single; TypeElement: Модуль питания; Name: SMSA28; Script: [TypeElement] [Name][Voltage][Screening]; Voltage: {05S}; ExistVoltage: 3R3S=3,3В; 05S=5В; 5R2S=5,2В; 12S=12В; 15S=15В; Maker: Interpoint; Screening: /KR; Value: *
pins: 1 +OUT, 2 -OUT, 3 hidden, 4 hidden, 5 INH, 6 IN+, 7 IN-, 8 Case
text: DC/DC

## SNP346-2VP21-1
designator XP?
PLS-2; TypeElement: Соединитель; Name: СНП346-2ВП21-1-В; Script: [TypeElement] [Name]; Specific: РЮМК.430420.011ТУ; Value: *
footprint PLD
pins: 1, 2

## SNP346-3VP21-1
designator XP?
PLS-3; TypeElement: Соединитель; Name: СНП346-3ВП21-1-В; Script: [TypeElement] [Name]; Specific: РЮМК.430420.011ТУ; Value: *
footprint PLD
pins: 1, 2, 3

## SNP346-6VP21-2
designator XP?
PLD-6; TypeElement: Соединитель; Name: СНП346-6ВП21-2-В; Script: [TypeElement] [Name]; Specific: РЮМК.430420.011ТУ; Value: *
footprint PLD
pins: 1, 2, 3, 4, 5, 6

## SNP346-8VP21-1
designator XP?
PLS-8; TypeElement: Соединитель; Name: СНП346-8ВП21-1-В; Script: [TypeElement] [Name]; Specific: РЮМК.430420.011ТУ; Value: *
footprint PLD
pins: 1, 2, 3, 4, 5, 6, 7, 8

## SNP346-10VP21-2
designator XP?
PLD-10 for JTAG; TypeElement: Соединитель; Name: СНП346-10ВП21-2-В; Script: [TypeElement] [Name]; Specific: РЮМК.430420.011ТУ; Value: *
footprint snp346_2_10
pins: 1 TCK, 2 GND, 3 TDO, 4 Vcc, 5 TMS, 6 hidden, 7 hidden, 8 hidden, 9 TDI, 10 GND

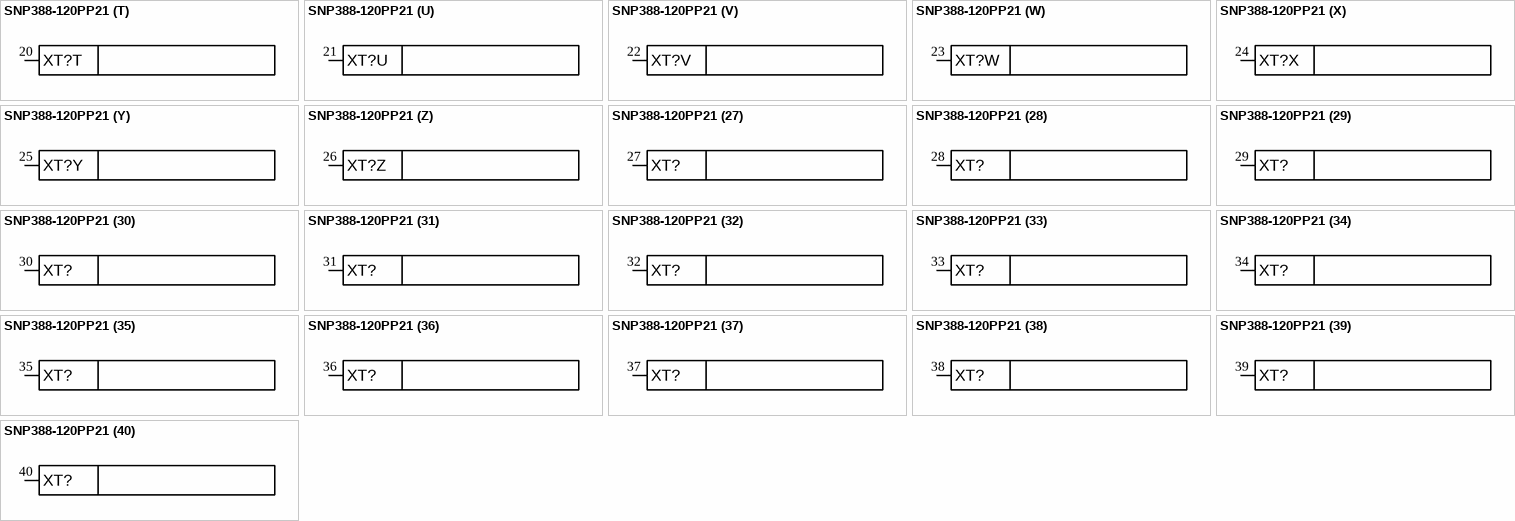
[diagram p5: symbol SNP388-120PP21]

## SNP388-120PP21
designator XT?
PC-104 120pin; TypeElement: Соединитель; Name: SNP388-120PP21; Script: [TypeElement] [Name]; Value: *
part A pins: 1
part B pins: 2
part C pins: 3
part D pins: 4
part E pins: 5
part F pins: 6
part G pins: 7
part H pins: 8
part I pins: 9
part J pins: 10
part K pins: 11
part L pins: 12
part M pins: 13
part N pins: 14
part O pins: 15
part P pins: 16
part Q pins: 17
part R pins: 18
part S pins: 19
part T pins: 20
part U pins: 21
part V pins: 22
part W pins: 23
part X pins: 24
part Y pins: 25
part Z pins: 26
part 27 pins: 27
part 28 pins: 28
part 29 pins: 29
part 30 pins: 30
part 31 pins: 31
part 32 pins: 32
part 33 pins: 33
part 34 pins: 34
part 35 pins: 35
part 36 pins: 36
part 37 pins: 37
part 38 pins: 38
part 39 pins: 39
part 40 pins: 40
part 41 pins: 41
part 42 pins: 42
part 43 pins: 43
part 44 pins: 44
part 45 pins: 45
part 46 pins: 46
part 47 pins: 47
part 48 pins: 48
part 49 pins: 49
part 50 pins: 50
part 51 pins: 51
part 52 pins: 52
part 53 pins: 53
part 54 pins: 54
part 55 pins: 55
part 56 pins: 56
part 57 pins: 57
part 58 pins: 58
part 59 pins: 59
part 60 pins: 60
part 61 pins: 61
part 62 pins: 62
part 63 pins: 63
part 64 pins: 64
part 65 pins: 65
part 66 pins: 66
part 67 pins: 67
part 68 pins: 68
part 69 pins: 69
part 70 pins: 70
part 71 pins: 71
part 72 pins: 72
part 73 pins: 73
part 74 pins: 74
part 75 pins: 75
part 76 pins: 76
part 77 pins: 77
part 78 pins: 78
part 79 pins: 79
part 80 pins: 80
part 81 pins: 81
part 82 pins: 82
part 83 pins: 83
part 84 pins: 84
part 85 pins: 85
part 86 pins: 86
part 87 pins: 87
part 88 pins: 88
part 89 pins: 89
part 90 pins: 90
part 91 pins: 91
part 92 pins: 92
part 93 pins: 93
part 94 pins: 94
part 95 pins: 95
part 96 pins: 96
part 97 pins: 97
part 98 pins: 98
part 99 pins: 99
part 100 pins: 100
part 101 pins: 101
part 102 pins: 102
part 103 pins: 103
part 104 pins: 104
part 105 pins: 105
part 106 pins: 106
part 107 pins: 107
part 108 pins: 108
part 109 pins: 109
part 110 pins: 110
part 111 pins: 111
part 112 pins: 112
part 113 pins: 113
part 114 pins: 114
part 115 pins: 115
part 116 pins: 116
part 117 pins: 117
part 118 pins: 118
part 119 pins: 119
part 120 pins: 120